# Altium footprint library TO-264-3.PcbLib: 1 footprints
Each footprint in its own frame and in the unit in brackets; x right, y up, seen from the top. Pads: shape width x height; smd on the part's side, far side on the other; paste and mask are expansions set on the pad; w line width, h text height; cw(c..) or ccw(c..) is an arc to the next point about the centre after c.
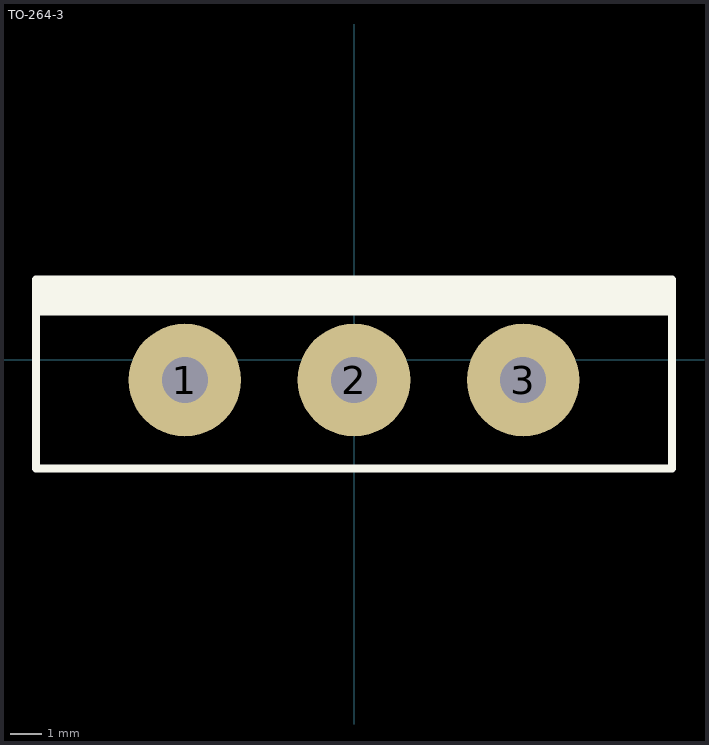
[diagram p0: the footprint, top view; thin cyan lines are the x and y axes]

## TO-264-3 [mm]
pads (3):
  round 3.55 hole 1.45: 1(-5.334,-0.635) 2(0,-0.635) 3(5.334,-0.635)
Top Overlay:
  rectangle: -10.033,1.397 10.033,2.54
  lines w0.254: -10.033,-3.429 10.033,-3.429 10.033,2.54 -10.033,2.54 -10.033,-3.429
3D body "TO-264 (FGL60N120).STEP": height 38.4, standoff -7.5, extent -10,-3.5 10,1.5